# EAGLE library part PCA9546A (library pimoroni)
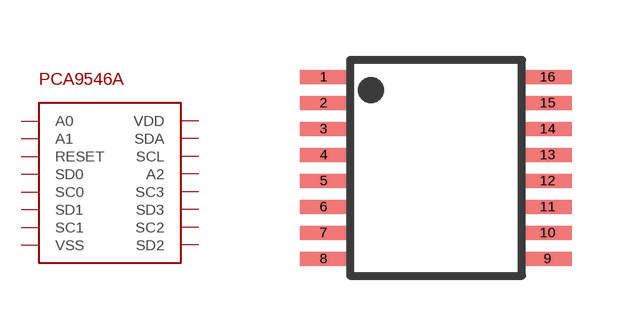
[diagram p21: symbol with the pads of TSSOP-16; footprint TSSOP-16]

Designator prefix -

## PCA9546A  [TSSOP-16]
1  A0
2  A1
3  RESET
4  SD0
5  SC0
6  SD1
7  SC1
8  VSS
9  SD2
10  SC2
11  SD3
12  SC3
13  A2
14  SCL
15  SDA
16  VDD

## Footprint TSSOP-16 (pad centres in mm)
PW (R-PDSO-G8) Source: http://focus.ti.com/lit/ds/symlink/ads1271.pdf
smd 1.2 x 0.35: 1 -2.808,2.275; 2 -2.808,1.625; 3 -2.808,0.975; 4 -2.808,0.325; 5 -2.808,-0.325; 6 -2.808,-0.975; 7 -2.808,-1.625; 8 -2.808,-2.275; 9 2.795,-2.275; 10 2.795,-1.625; 11 2.795,-0.975; 12 2.795,-0.325; 13 2.795,0.325; 14 2.795,0.975; 15 2.795,1.625; 16 2.795,2.275